# EAGLE library part SI7021 (library daqcs)
I2C HUMIDITY AND TEMPERATURE SENSOR
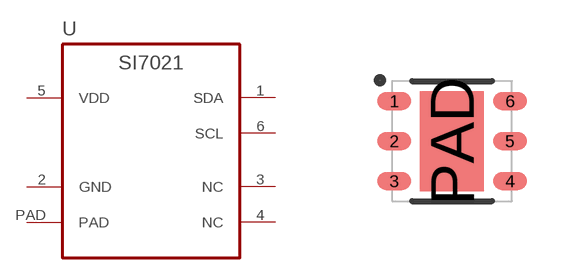
[diagram p16: symbol with the pads of DFN-100P085X045-T-6N; footprint DFN-100P085X045-T-6N]

Designator prefix U

## SI7021-A20-IM_DFN6 (ACCURACY: 3%_RH; DATASHEET: HW/docs/projects/raspi_zero_power_sensor_hat/datasheets/sensors/Si7021-A20.pdf; INTERFACE: I2C; MANUFACTURER: Silicon Labs; MANUFACTURER_PN: SI7021-A20-IM; RESPONSE_TIME: 18s; VALUE: SI7021; VENDOR: Digi-key; VENDOR_PN: 336-3142-5-ND)  [DFN-100P085X045-T-6N]
1  SDA
2  GND  pwr
3  NC  nc
4  NC  nc
5  VDD  pwr
6  SCL  in
PAD  PAD  nc

## Footprint DFN-100P085X045-T-6N (pad centres in mm)
smd 0.85 x 0.45: 1 -1.45,1; 2 -1.45,0; 3 -1.45,-1; 4 1.45,-1; 5 1.45,0; 6 1.45,1
smd 1.6 x 2.5: PAD 0,0